# EAGLE library part ADM1485 (library CasaLibrary)
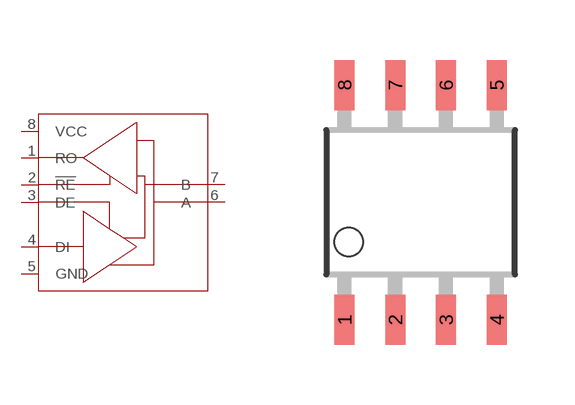
[diagram p28: symbol with the pads of SO08; footprint SO08]

Designator prefix -

## ADM1485  [SO08]
1  RO
2  !RE
3  DE
4  DI
5  GND
6  A
7  B
8  VCC

## Footprint SO08 (pad centres in mm)
Small Outline Package
smd 0.5 x 1.25: 1 -1.905,-2.934; 2 -0.635,-2.934; 3 0.635,-2.934; 4 1.905,-2.934; 5 1.905,2.934; 6 0.635,2.934; 7 -0.635,2.934; 8 -1.905,2.934